# EAGLE library part LED-EL-SMD-RGB (library jbolay)
Full Color PLCC6 LED OVSTRGBBCR8 Source: www.optekinc.com .. ovstrgbbcr8.pdf
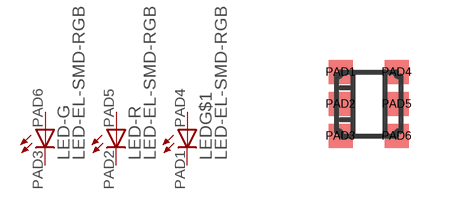
[diagram p0: symbol with the pads of LED-EL-SMD-RGB; footprint LED-EL-SMD-RGB]

Designator prefix LED; gates -G=LED-A -R=LED-A G$1=LED-A

## LED-EL-SMD-RGB  [LED-EL-SMD-RGB]
PAD1  G$1:C  pas
PAD2  -R:C  pas
PAD3  -G:C  pas
PAD4  G$1:A  pas
PAD5  -R:A  pas
PAD6  -G:A  pas

## Footprint LED-EL-SMD-RGB (pad centres in mm)
Full Color PLCC6 LED OVSTRGBBCR8 Source: www.optekinc.com .. ovstrgbbcr8.pdf
smd 0.6 x 0.6: PAD1 -0.7,0.8; PAD2 -0.7,0; PAD3 -0.7,-0.8; PAD4 0.7,0.8; PAD5 0.7,0; PAD6 0.7,-0.8